# Altium schematic symbol library type-c-sch.SchLib: 24 symbols
Pins are listed as number, name and electrical type; pins without a type are passive.

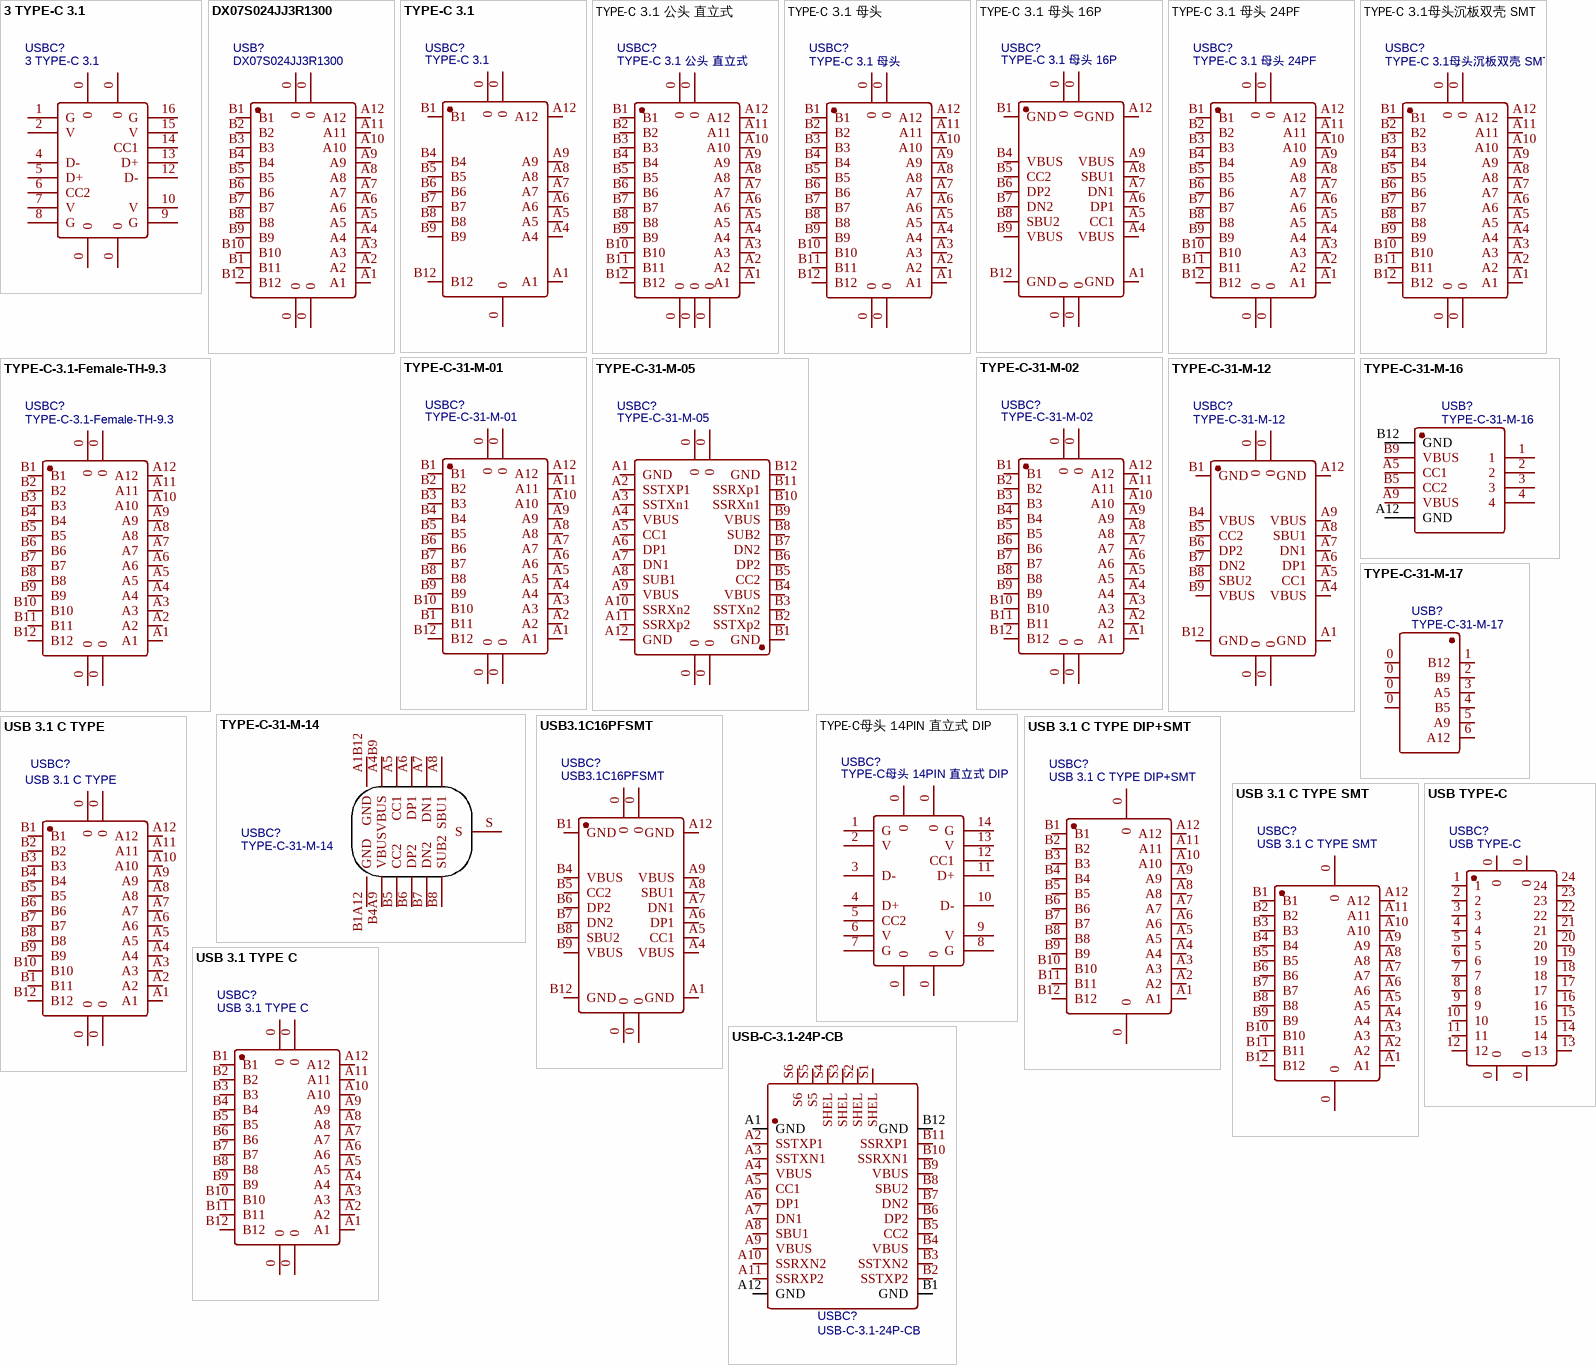
[diagram p0: symbols 3 TYPE-C 3.1 to USB-C-3.1-24P-CB]

## 3 TYPE-C 3.1
designator USBC?
footprint TYPE-C3.1-USB-8
pins: 0, 0, 0, 0, 1 G, 2 V, 4 D-, 5 D+, 6 CC2, 7 V, 8 G, 9 G, 10 V, 12 D-, 13 D+, 14 CC1, 15 V, 16 G

## DX07S024JJ3R1300
designator USB?
footprint TYPE-C-USB-15
pins: 0, 0, 0, 0, A1, A2, A3, A4, A5, A6, A7, A8, A9, A10, A11, A12, B1, B1 B11, B2, B3, B4, B5, B6, B7, B8, B9, B10, B12

## TYPE-C 3.1
designator USBC?
footprint TYPE-C3.1-USB-9
pins: 0, 0, 0, A1, A4, A5, A6, A7, A8, A9, A12, B1, B4, B5, B6, B7, B8, B9, B12

## TYPE-C 3.1 公头 直立式
designator USBC?
footprint TYPE-C-USB-3
pins: 0, 0, 0, 0, 0, A1, A2, A3, A4, A5, A6, A7, A8, A9, A10, A11, A12, B1, B2, B3, B4, B5, B6, B7, B8, B9, B10, B11, B12

## TYPE-C 3.1 母头
designator USBC?
footprint TYPE-C-USB-19
pins: 0, 0, 0, 0, A1, A2, A3, A4, A5, A6, A7, A8, A9, A10, A11, A12, B1, B2, B3, B4, B5, B6, B7, B8, B9, B10, B11, B12

## TYPE-C 3.1 母头 16P
designator USBC?
footprint TYPE-C-USB-12
pins: 0, 0, 0, 0, A1 GND, A4 VBUS, A5 CC1, A6 DP1, A7 DN1, A8 SBU1, A9 VBUS, A12 GND, B1 GND, B4 VBUS, B5 CC2, B6 DP2, B7 DN2, B8 SBU2, B9 VBUS, B12 GND

## TYPE-C 3.1 母头 24PF
designator USBC?
footprint TYPE-C-USB-16
pins: 0, 0, 0, 0, A1, A2, A3, A4, A5, A6, A7, A8, A9, A10, A11, A12, B1, B2, B3, B4, B5, B6, B7, B8, B9, B10, B11, B12

## TYPE-C 3.1母头沉板双壳 SMT
designator USBC?
footprint TYPE-C-USB-15
pins: 0, 0, 0, 0, A1, A2, A3, A4, A5, A6, A7, A8, A9, A10, A11, A12, B1, B2, B3, B4, B5, B6, B7, B8, B9, B10, B11, B12

## TYPE-C-3.1-Female-TH-9.3
designator USBC?
footprint TYPE-C-USB-2
pins: 0, 0, 0, 0, A1, A2, A3, A4, A5, A6, A7, A8, A9, A10, A11, A12, B1, B2, B3, B4, B5, B6, B7, B8, B9, B10, B11, B12

## TYPE-C-31-M-01
designator USBC?
footprint TYPE-C-USB-22
pins: 0, 0, 0, 0, A1, A2, A3, A4, A5, A6, A7, A8, A9, A10, A11, A12, B1, B1 B11, B2, B3, B4, B5, B6, B7, B8, B9, B10, B12

## TYPE-C-31-M-02
designator USBC?
footprint TYPE-C-USB-21
pins: 0, 0, 0, 0, A1, A2, A3, A4, A5, A6, A7, A8, A9, A10, A11, A12, B1, B2, B3, B4, B5, B6, B7, B8, B9, B10, B11, B12

## TYPE-C-31-M-05
designator USBC?
footprint TYPE-C-USB-23
pins: 0, 0, 0, 0, A1 GND, A2 SSTXP1, A3 SSTXn1, A4 VBUS, A5 CC1, A6 DP1, A7 DN1, A8 SUB1, A9 VBUS, A10 SSRXn2, A11 SSRXp2, A12 GND, B1 GND, B2 SSTXp2, B3 SSTXn2, B4 VBUS, B5 CC2, B6 DP2, B7 DN2, B8 SUB2, B9 VBUS, B10 SSRXn1, B11 SSRXp1, B12 GND

## TYPE-C-31-M-12
designator USBC?
footprint USB-TYPE-C_16PIN-MALE-TYPE-C-31-M-12
pins: 0, 0, 0, 0, A1 GND, A4 VBUS, A5 CC1, A6 DP1, A7 DN1, A8 SBU1, A9 VBUS, A12 GND, B1 GND, B4 VBUS, B5 CC2, B6 DP2, B7 DN2, B8 SBU2, B9 VBUS, B12 GND

## TYPE-C-31-M-14
designator USBC?
footprint USB-TYPE-C_20PIN-FEMALE_TYPE-C-31-M-14
pins: A1B12 GND, A4B9 VBUS, A5 CC1, A6 DP1, A7 DN1, A8 SBU1, B1A12 GND, B4A9 VBUS, B5 CC2, B6 DP2, B7 DN2, B8 SUB2, S

## TYPE-C-31-M-16
designator USB?
footprint TYPE-C-31-M-16
pins: 1, 2, 3, 4, A5 CC1, A9 VBUS, A12 GND, B5 CC2, B9 VBUS, B12 GND

## TYPE-C-31-M-17
designator USB?
footprint USB-TYPE-C-SMD6
pins: 0, 0, 0, 0, 1 B12, 2 B9, 3 A5, 4 B5, 5 A9, 6 A12

## TYPE-C母头 14PIN 直立式 DIP
designator USBC?
footprint TTPE-C-USB-14P
pins: 0, 0, 0, 0, 1 G, 2 V, 3 D-, 4 D+, 5 CC2, 6 V, 7 G, 8 G, 9 V, 10 D-, 11 D+, 12 CC1, 13 V, 14 G

## USB3.1C16PFSMT
designator USBC?
footprint TYPE-C-USB-17
pins: 0, 0, 0, 0, A1 GND, A4 VBUS, A5 CC1, A6 DP1, A7 DN1, A8 SBU1, A9 VBUS, A12 GND, B1 GND, B4 VBUS, B5 CC2, B6 DP2, B7 DN2, B8 SBU2, B9 VBUS, B12 GND

## USB 3.1 C TYPE
designator USBC?
footprint TYPE-USB-3.1-1D
pins: 0, 0, 0, 0, A1, A2, A3, A4, A5, A6, A7, A8, A9, A10, A11, A12, B1, B1 B11, B2, B3, B4, B5, B6, B7, B8, B9, B10, B12

## USB 3.1 C TYPE DIP+SMT
designator USBC?
footprint TYPE-C-USB-7
pins: 0, 0, A1, A2, A3, A4, A5, A6, A7, A8, A9, A10, A11, A12, B1, B2, B3, B4, B5, B6, B7, B8, B9, B10, B11, B12

## USB 3.1 C TYPE SMT
designator USBC?
footprint TYPE-C-USB-6
pins: 0, 0, A1, A2, A3, A4, A5, A6, A7, A8, A9, A10, A11, A12, B1, B2, B3, B4, B5, B6, B7, B8, B9, B10, B11, B12

## USB 3.1 TYPE C
designator USBC?
footprint TYPEC-USB-14
pins: 0, 0, 0, 0, A1, A2, A3, A4, A5, A6, A7, A8, A9, A10, A11, A12, B1, B2, B3, B4, B5, B6, B7, B8, B9, B10, B11, B12

## USB TYPE-C
designator USBC?
footprint TYPE-C-USB-10
pins: 0, 0, 0, 0, 1, 2, 3, 4, 5, 6, 7, 8, 9, 10, 11, 12, 13, 14, 15, 16, 17, 18, 19, 20, 21, 22, 23, 24

## USB-C-3.1-24P-CB
designator USBC?
footprint USB-C-3.1-24P-JCJ-CB
pins: A1 GND, A2 SSTXP1, A3 SSTXN1, A4 VBUS, A5 CC1, A6 DP1, A7 DN1, A8 SBU1, A9 VBUS, A10 SSRXN2, A11 SSRXP2, A12 GND, B1 GND, B2 SSTXP2, B3 SSTXN2, B4 VBUS, B5 CC2, B6 DP2, B7 DN2, B8 SBU2, B9 VBUS, B10 SSRXN1, B11 SSRXP1, B12 GND, S1 SHEL, S2 SHEL, S3 SHEL, S4 SHEL, S5, S6